# Altium schematic symbol library PISCES_200.SCHLIB: 17 symbols
Pins are listed as number, name and electrical type; pins without a type are passive.

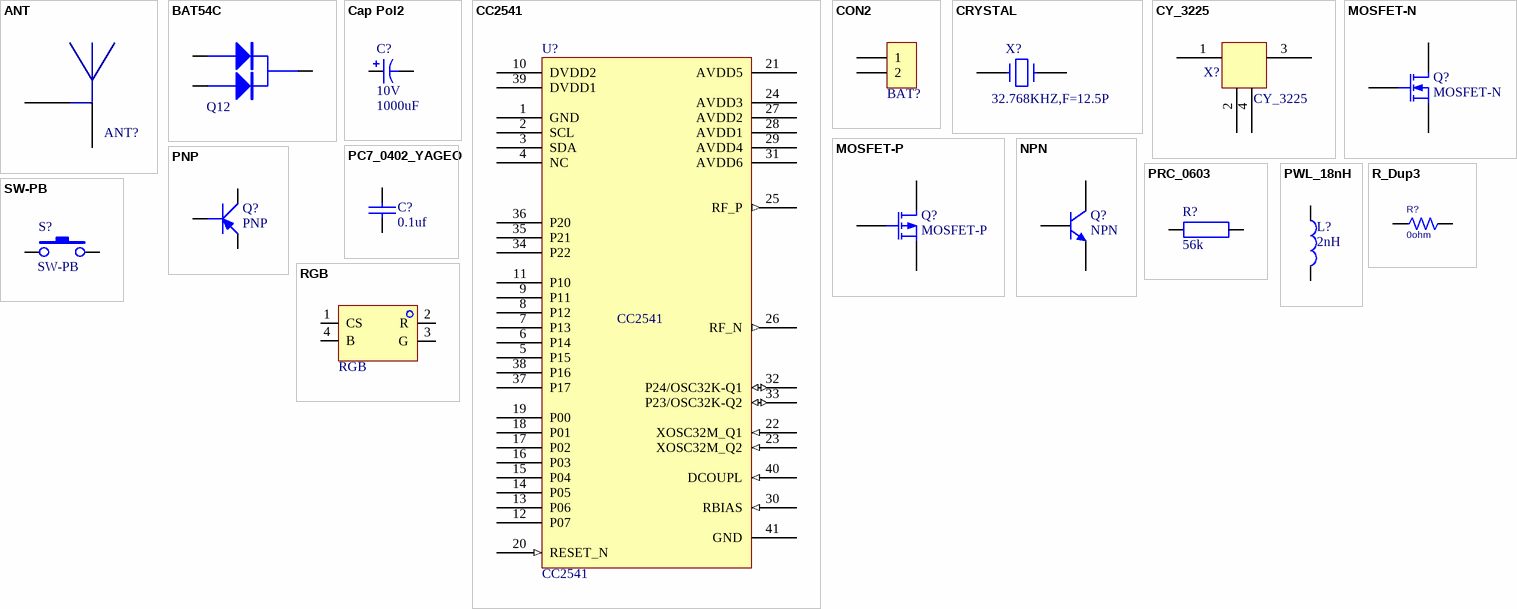
[diagram p0: symbols ANT to SW-PB]

## ANT
designator ANT?  (value not drawn)
footprint ANT
pins: 1, 2

## BAT54C
designator Q?, comment Q12
footprint SOT-23
pins: 1, 2, 3

## Cap Pol2
designator C?, comment 10V  value 1000uF
Polarized Capacitor (Axial); Published: 8-Jun-2000; LatestRevisionDate: 17-Jul-2002; LatestRevisionNote: Re-released for DXP Platform.; PackageReference: POLAR0.8; Publisher: Altium Limited; PackageDescription: Polarized Capacitor; 2 Leads
footprint CAT_ELE
pins: 1, 2
1 alternate drawing of the same symbol

## CC2541
designator U?
footprint CC2530_QFN40
pins: 1 GND (power), 2 SCL (power), 3 SDA (power), 4 NC (power), 5 P15, 6 P14, 7 P13, 8 P12, 9 P11, 10 DVDD2 (power), 11 P10, 12 P07, 13 P06, 14 P05, 15 P04, 16 P03, 17 P02, 18 P01, 19 P00, 20 RESET_N (in), 21 AVDD5 (power), 22 XOSC32M_Q1 (in), 23 XOSC32M_Q2 (in), 24 AVDD3 (power), 25 RF_P (out), 26 RF_N (out), 27 AVDD2 (power), 28 AVDD1 (power), 29 AVDD4 (power), 30 RBIAS (in), 31 AVDD6 (power), 32 P24/OSC32K-Q1 (io), 33 P23/OSC32K-Q2 (io), 34 P22, 35 P21, 36 P20, 37 P17, 38 P16, 39 DVDD1 (power), 40 DCOUPL (in), 41 GND (power)

## CON2
designator BAT?, comment CN1  (value not drawn)
Connector
footprint 2PAD
pins: 1, 2

## CRYSTAL
designator X?, comment 32.768KHZ,F=12.5P
Crystal
footprint FC-135
pins: 1, 2

## CY_3225
designator X?
footprint CY_3225
pins: 1 (power), 2 (power), 3 (power), 4 (power)

## MOSFET-N
designator Q?
N-Channel MOSFET; Published: 8-Jun-2000; LatestRevisionDate: 17-Jul-2002; LatestRevisionNote: Re-released for DXP Platform.; PackageVersion: 1995/1996; PackageReference: E3; Publisher: Altium Limited; PackageDescription: TO, Flat Index; 3 In-Line, Axial Leads; Body Dia. 4.6mm; Lead Dia. 0.5 mm (max)
footprint SOT-23
pins: 1 G, 2 S, 3 D

## MOSFET-P
designator Q?
P-Channel MOSFET; Published: 8-Jun-2000; LatestRevisionDate: 17-Jul-2002; LatestRevisionNote: Re-released for DXP Platform.; PackageVersion: 1995/1996; PackageReference: E3; Publisher: Altium Limited; PackageDescription: TO, Flat Index; 3 In-Line, Axial Leads; Body Dia. 4.6mm; Lead Dia. 0.5 mm (max)
footprint SOT-23
pins: 1 G, 2 S, 3 D

## NPN
designator Q?
BC847C; Published: 8-Jun-2000; LatestRevisionDate: 17-Jul-2002; LatestRevisionNote: Re-released for DXP Platform.; PackageReference: TO-226-AA; Publisher: Altium Limited; PackageDescription: TO, Flat Index; 3 In-Line, Axial Leads; Body Dia. 4.8mm; Leads 0.55 x 0.51 mm (max); Code_JEDEC: TO-226-AA
footprint SOT-23
pins: 1, 2, 3

## PC7_0402_YAGEO
designator C?, comment 0.1uf
PC7-*****-KQA0A
footprint PC7-*****-KQA0A_0402_YAGEO (0402)
pins: 1, 2
2 alternate drawings of the same symbol

## PNP
designator Q?
BC857C
footprint SOT-23
pins: 1, 2, 3

## PRC_0603
designator R?, comment 56k
PRC-*****-AM-0A_0603; Text Field1: pristel=\Models.lib
footprint PRC-*****-BM-0A_0402 (0402)
pins: 1, 2
2 alternate drawings of the same symbol

## PWL_18nH
designator L?, comment 2nH
PWL-00195-00-20
footprint PC5-*****-**-0A_0402_TDK (0402)
pins: 1, 2

## R_Dup3
designator R?, comment 0ohm
PSpiceTemplate: R^@REFDES %1 %2 ?TOLERANCE|R^@REFDES| @VALUE  ?TOLERANCE|\n.model R^@REFDES RES R=1 DEV=@TOLERANCE%|; Right: 20; Bottom: 20
footprint R0603
footprint PC7-*****-KQA0A_0402_YAGEO (0402)
pins: 1, 2
2 alternate drawings of the same symbol

## RGB
designator RGB?
pins: 1 CS, 2 R, 3 G, 4 B

## SW-PB
designator S?
footprint TS-030
pins: 1, 2